# EAGLE library part SIMHOLDER (library jason-test)
SIM holder with switch
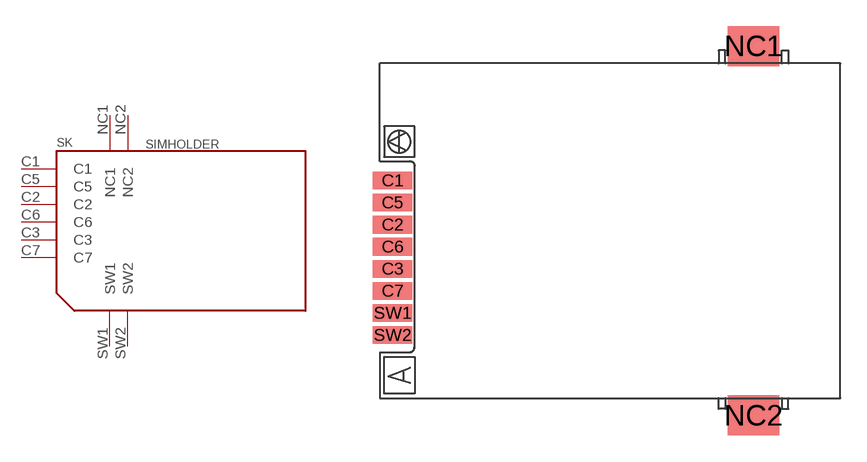
[diagram p0: symbol with the pads of FMS006-2001-0; footprint FMS006-2001-0]

Designator prefix SK

## SIMHOLDER  [FMS006-2001-0]
C1  C1  pwr
C2  C2  in
C3  C3  in
C5  C5  pwr
C6  C6  nc
C7  C7
NC1  NC1  nc
NC2  NC2  nc
SW1  SW1
SW2  SW2

## Footprint FMS006-2001-0 (pad centres in mm)
FMS006-2001-0 SIM socket (with switch)
smd 2.286 x 1.016: C1 0,0.096; C2 0,-2.444; C3 0,-4.984; C5 0,-1.174; C6 0,-3.714; C7 0,-6.254; SW1 0,-7.524; SW2 0,-8.794
smd 2.95 x 2.3: NC1 20.77,7.831; NC2 20.77,-13.419